# Altium footprint library interface_PcbLib.PcbLib: 35 footprints (part 3 of 3)
Each footprint in its own frame and in the unit in brackets; x right, y up, seen from the top. Pads: shape width x height; smd on the part's side, far side on the other; paste and mask are expansions set on the pad; w line width, h text height; cw(c..) or ccw(c..) is an arc to the next point about the centre after c.
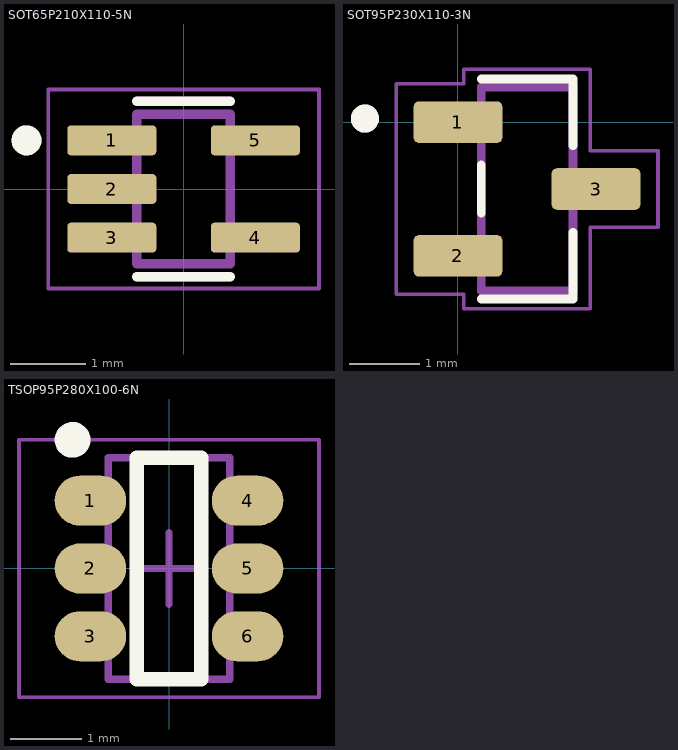
[diagram p2: the footprints below, top view; thin cyan lines are the x and y axes]

## SOT65P210X110-5N [mm]
pads (5):
  rrect25% 1.19x0.4 smd: 1(-0.96,0.65) 2(-0.96,0) 3(-0.96,-0.65) 4(0.96,-0.65) 5(0.96,0.65)
Top Overlay:
  circle w0.2: c-2.1,0.65 r0.1
  lines w0.127: -0.625,-1.17 0.625,-1.17 ; -0.625,1.17 0.625,1.17
Top Assembly:
  circle w0.2: c-2.1,0.65 r0.1
  lines w0.127: -0.625,-1.17 0.625,-1.17 ; -0.625,1.17 0.625,1.17
  text "'.Designator'" at -3.965,-0.292 h0.7
Mechanical 13:
  circle w0.2: c-2.1,0.65 r0.1
  lines w0.127: -0.625,-1 -0.625,1 0.625,1 0.625,-1 -0.625,-1
Mechanical 15:
  lines w0.05: -1.81,-1.33 -1.81,1.33 1.81,1.33 1.81,-1.33 -1.81,-1.33
3D body "step_temp.STEP": height 1.1, standoff 0, extent -1.05,-1 1.05,1

## SOT95P230X110-3N [mm]
pads (3):
  rrect25% 1.26x0.59 smd: 1(0,0) 2(0,-1.9) 3(1.96,-0.95)
Top Overlay:
  circle w0.2: c-1.32,0.05 r0.1
  lines w0.127: 0.33,-2.509 1.63,-2.509 1.63,-1.565 ; 0.33,-1.292 0.33,-0.609 ; 0.33,0.609 1.63,0.609 1.63,-0.335
Top Assembly:
  text "'.Designator'" at 1.272,-4.915 h0.7
Mechanical 13:
  circle w0.2: c-1.32,0.05 r0.1
  lines w0.127: 0.33,-2.4 1.63,-2.4 1.63,0.5 0.33,0.5 0.33,-2.4
Mechanical 15:
  lines w0.05: -0.88,-2.445 -0.88,0.545 0.08,0.545 0.08,0.75 1.88,0.75 1.88,-0.405 2.84,-0.405 2.84,-1.495 1.88,-1.495 1.88,-2.65 0.08,-2.65 0.08,-2.445 -0.88,-2.445
3D body "NXV55UNR.STEP": height 1.11, standoff 0.01, extent -0.17,-2.4 2.13,0.5

## TSOP95P280X100-6N [mm] "TSOP, 6-Leads, Body 2,90x1,60mm, Pitch 0,95mm, IPC Medium Density"
height 1
pads (6):
  oval 1x0.7 smd: 1(-1.1,0.95) 2(-1.1,0) 3(-1.1,-0.95) 4(1.1,0.95) 5(1.1,0) 6(1.1,-0.95)
Top Overlay:
  circle w0.25: c-1.35,1.8 r0.125
  lines w0.2: -0.45,-1.55 0.45,-1.55 0.45,1.55 -0.45,1.55 -0.45,-1.55
Top Assembly:
  lines w0.1: -0.85,-1.55 -0.85,1.55 0.85,1.55 0.85,-1.55 -0.85,-1.55
  text "'.Designator'" at 0.208,-2.832 h0.5
Mechanical 15:
  lines w0.05: -2.1,-1.8 -2.1,1.8 2.1,1.8 2.1,-1.8 -2.1,-1.8
  lines w0.1: -0.5,0 0.5,0 ; 0,-0.5 0,0.5
3D body: height 1, standoff 0, extent -0.85,-1.55 0.85,1.55